# Altium schematic symbol library GA3416.SchLib: 1 symbol
Pins are listed as number, name and electrical type; pins without a type are passive.

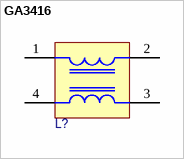
[diagram p0: symbol GA3416]

## GA3416
designator L?
pins: 1, 2, 3, 4